# EAGLE library part LTC4412 (library monome)
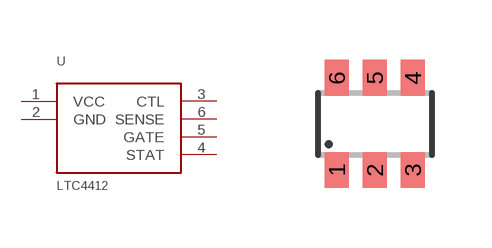
[diagram p5: symbol with the pads of SOT23-6; footprint SOT23-6]

Designator prefix -

## LTC4412  [SOT23-6]
1  VCC  pwr
2  GND  pwr
3  CTL
4  STAT
5  GATE
6  SENSE

## Footprint SOT23-6 (pad centres in mm)
Small Outline Transistor 6 lead
smd 0.6 x 0.9: 1 -0.95,-1.15; 2 0,-1.15; 3 0.95,-1.15; 4 0.95,1.15; 5 0,1.15; 6 -0.95,1.15